# Altium schematic symbol library SCH - MCU - STM32 - ST MICROELECTRONICS STM32F722I(C-E)TX LQFP176.SchLib: 1 symbol
Pins are listed as number, name and electrical type; pins without a type are passive.

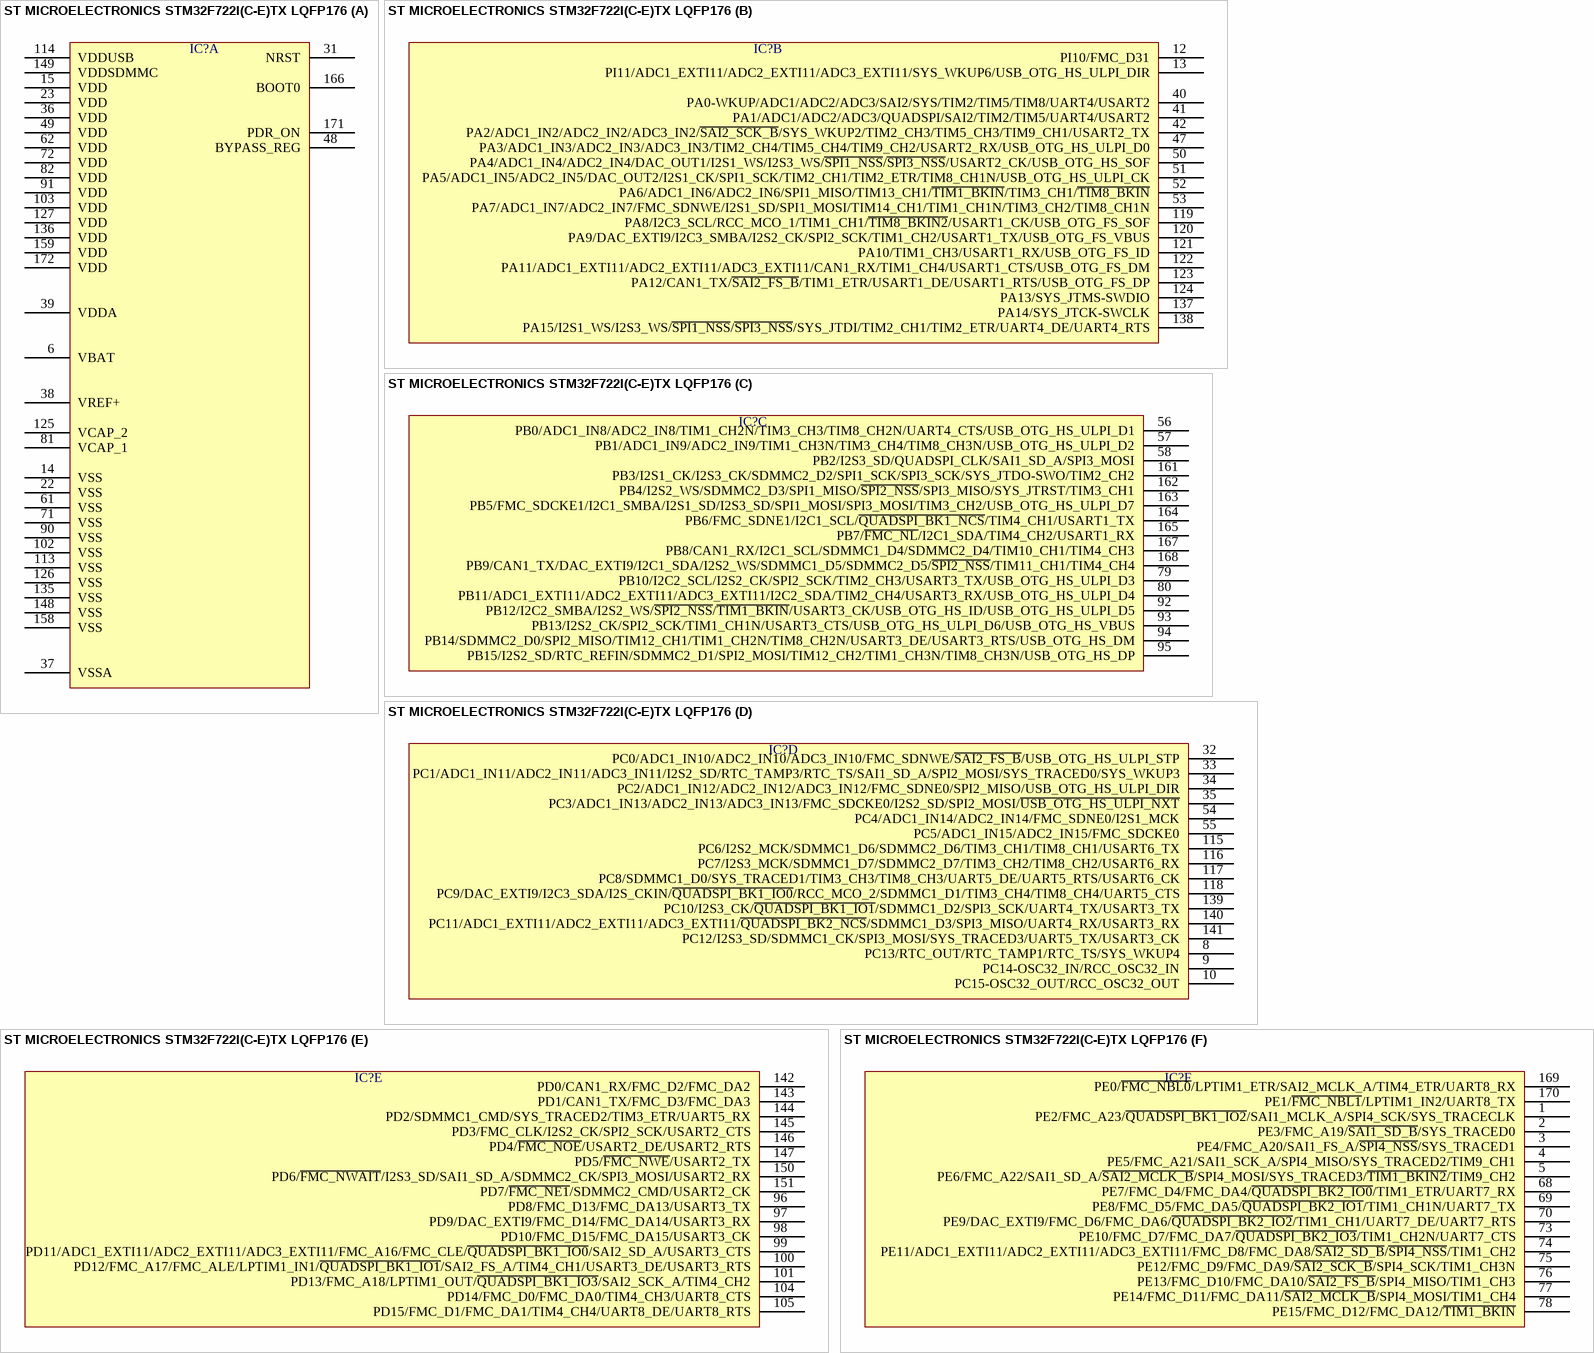
[diagram p0: symbol ST MICROELECTRONICS STM32F722I(C-E)TX LQFP176]

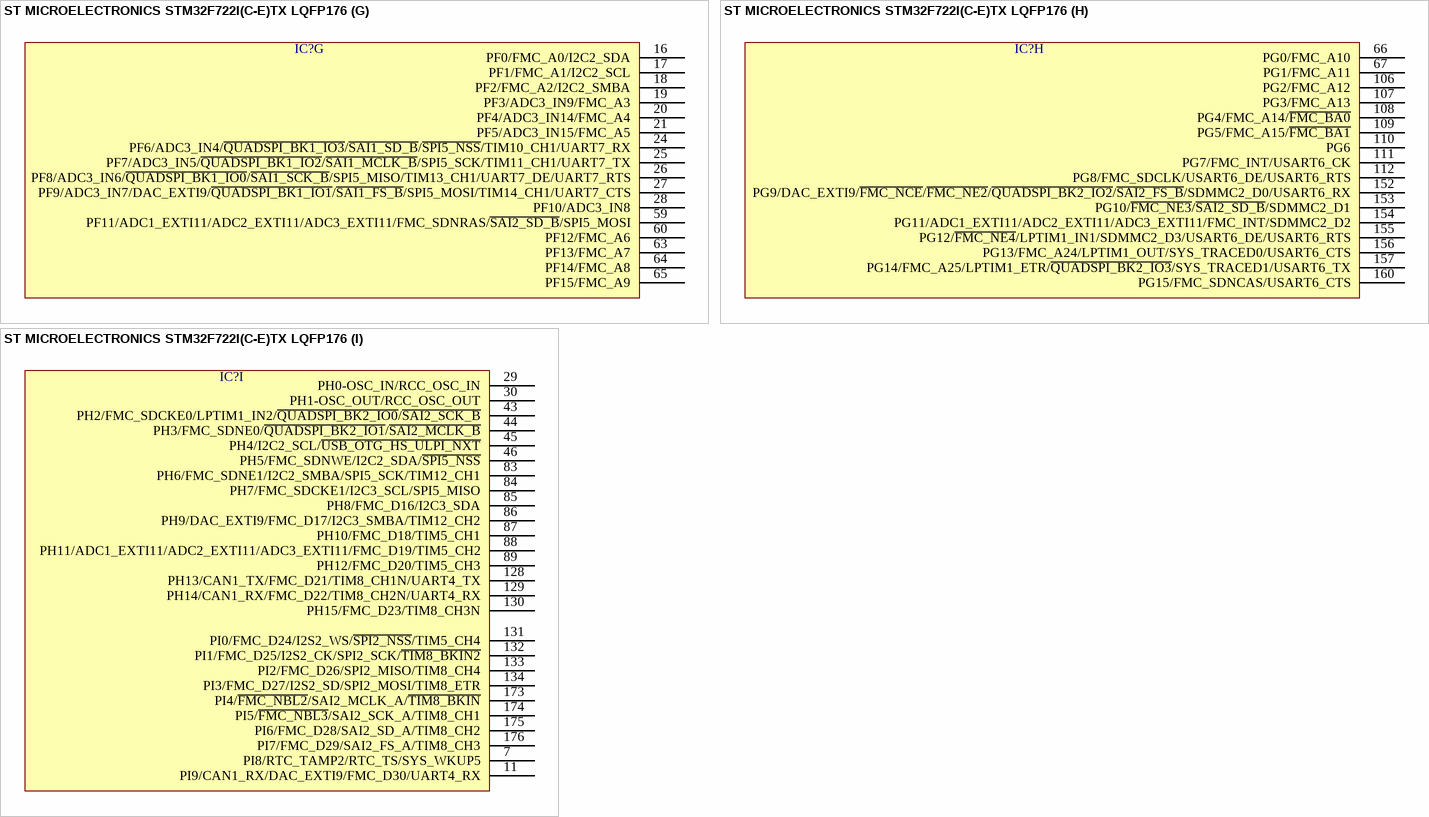
[diagram p1: symbol ST MICROELECTRONICS STM32F722I(C-E)TX LQFP176]

## ST MICROELECTRONICS STM32F722I(C-E)TX LQFP176
designator IC?  (value not drawn)
part A pins: 6 VBAT, 14 VSS, 15 VDD, 22 VSS, 23 VDD, 31 NRST, 36 VDD, 37 VSSA, 38 VREF+, 39 VDDA, 48 BYPASS_REG, 49 VDD, 61 VSS, 62 VDD, 71 VSS, 72 VDD, 81 VCAP_1, 82 VDD, 90 VSS, 91 VDD, 102 VSS, 103 VDD, 113 VSS, 114 VDDUSB, 125 VCAP_2, 126 VSS, 127 VDD, 135 VSS, 136 VDD, 148 VSS, 149 VDDSDMMC, 158 VSS, 159 VDD, 166 BOOT0, 171 PDR_ON, 172 VDD
part B pins: 12 PI10/FMC_D31, 13 PI11/ADC1_EXTI11/ADC2_EXTI11/ADC3_EXTI11/SYS_WKUP6/USB_OTG_HS_ULPI_DIR, 40 PA0-WKUP/ADC1/ADC2/ADC3/SAI2/SYS/TIM2/TIM5/TIM8/UART4/USART2, 41 PA1/ADC1/ADC2/ADC3/QUADSPI/SAI2/TIM2/TIM5/UART4/USART2, 42 PA2/ADC1_IN2/ADC2_IN2/ADC3_IN2/~{SAI2_SCK_B}/SYS_WKUP2/TIM2_CH3/TIM5_CH3/TIM9_CH1/USART2_TX, 47 PA3/ADC1_IN3/ADC2_IN3/ADC3_IN3/TIM2_CH4/TIM5_CH4/TIM9_CH2/USART2_RX/USB_OTG_HS_ULPI_D0, 50 PA4/ADC1_IN4/ADC2_IN4/DAC_OUT1/I2S1_WS/I2S3_WS/~{SPI1_NSS}/~{SPI3_NSS}/USART2_CK/USB_OTG_HS_SOF, 51 PA5/ADC1_IN5/ADC2_IN5/DAC_OUT2/I2S1_CK/SPI1_SCK/TIM2_CH1/TIM2_ETR/TIM8_CH1N/USB_OTG_HS_ULPI_CK, 52 PA6/ADC1_IN6/ADC2_IN6/SPI1_MISO/TIM13_CH1/~{TIM1_BKIN}/TIM3_CH1/~{TIM8_BKIN}, 53 PA7/ADC1_IN7/ADC2_IN7/FMC_SDNWE/I2S1_SD/SPI1_MOSI/TIM14_CH1/TIM1_CH1N/TIM3_CH2/TIM8_CH1N, 119 PA8/I2C3_SCL/RCC_MCO_1/TIM1_CH1/~{TIM8_BKIN2}/USART1_CK/USB_OTG_FS_SOF, 120 PA9/DAC_EXTI9/I2C3_SMBA/I2S2_CK/SPI2_SCK/TIM1_CH2/USART1_TX/USB_OTG_FS_VBUS, 121 PA10/TIM1_CH3/USART1_RX/USB_OTG_FS_ID, 122 PA11/ADC1_EXTI11/ADC2_EXTI11/ADC3_EXTI11/CAN1_RX/TIM1_CH4/USART1_CTS/USB_OTG_FS_DM, 123 PA12/CAN1_TX/~{SAI2_FS_B}/TIM1_ETR/USART1_DE/USART1_RTS/USB_OTG_FS_DP, 124 PA13/SYS_JTMS-SWDIO, 137 PA14/SYS_JTCK-SWCLK, 138 PA15/I2S1_WS/I2S3_WS/~{SPI1_NSS}/~{SPI3_NSS}/SYS_JTDI/TIM2_CH1/TIM2_ETR/UART4_DE/UART4_RTS
part C pins: 56 PB0/ADC1_IN8/ADC2_IN8/TIM1_CH2N/TIM3_CH3/TIM8_CH2N/UART4_CTS/USB_OTG_HS_ULPI_D1, 57 PB1/ADC1_IN9/ADC2_IN9/TIM1_CH3N/TIM3_CH4/TIM8_CH3N/USB_OTG_HS_ULPI_D2, 58 PB2/I2S3_SD/QUADSPI_CLK/SAI1_SD_A/SPI3_MOSI, 79 PB10/I2C2_SCL/I2S2_CK/SPI2_SCK/TIM2_CH3/USART3_TX/USB_OTG_HS_ULPI_D3, 80 PB11/ADC1_EXTI11/ADC2_EXTI11/ADC3_EXTI11/I2C2_SDA/TIM2_CH4/USART3_RX/USB_OTG_HS_ULPI_D4, 92 PB12/I2C2_SMBA/I2S2_WS/~{SPI2_NSS}/~{TIM1_BKIN}/USART3_CK/USB_OTG_HS_ID/USB_OTG_HS_ULPI_D5, 93 PB13/I2S2_CK/SPI2_SCK/TIM1_CH1N/USART3_CTS/USB_OTG_HS_ULPI_D6/USB_OTG_HS_VBUS, 94 PB14/SDMMC2_D0/SPI2_MISO/TIM12_CH1/TIM1_CH2N/TIM8_CH2N/USART3_DE/USART3_RTS/USB_OTG_HS_DM, 95 PB15/I2S2_SD/RTC_REFIN/SDMMC2_D1/SPI2_MOSI/TIM12_CH2/TIM1_CH3N/TIM8_CH3N/USB_OTG_HS_DP, 161 PB3/I2S1_CK/I2S3_CK/SDMMC2_D2/SPI1_SCK/SPI3_SCK/SYS_JTDO-SWO/TIM2_CH2, 162 PB4/I2S2_WS/SDMMC2_D3/SPI1_MISO/~{SPI2_NSS}/SPI3_MISO/SYS_JTRST/TIM3_CH1, 163 PB5/FMC_SDCKE1/I2C1_SMBA/I2S1_SD/I2S3_SD/SPI1_MOSI/SPI3_MOSI/TIM3_CH2/USB_OTG_HS_ULPI_D7, 164 PB6/FMC_SDNE1/I2C1_SCL/~{QUADSPI_BK1_NCS}/TIM4_CH1/USART1_TX, 165 PB7/~{FMC_NL}/I2C1_SDA/TIM4_CH2/USART1_RX, 167 PB8/CAN1_RX/I2C1_SCL/SDMMC1_D4/SDMMC2_D4/TIM10_CH1/TIM4_CH3, 168 PB9/CAN1_TX/DAC_EXTI9/I2C1_SDA/I2S2_WS/SDMMC1_D5/SDMMC2_D5/~{SPI2_NSS}/TIM11_CH1/TIM4_CH4
part D pins: 8 PC13/RTC_OUT/RTC_TAMP1/RTC_TS/SYS_WKUP4, 9 PC14-OSC32_IN/RCC_OSC32_IN, 10 PC15-OSC32_OUT/RCC_OSC32_OUT, 32 PC0/ADC1_IN10/ADC2_IN10/ADC3_IN10/FMC_SDNWE/~{SAI2_FS_B}/USB_OTG_HS_ULPI_STP, 33 PC1/ADC1_IN11/ADC2_IN11/ADC3_IN11/I2S2_SD/RTC_TAMP3/RTC_TS/SAI1_SD_A/SPI2_MOSI/SYS_TRACED0/SYS_WKUP3, 34 PC2/ADC1_IN12/ADC2_IN12/ADC3_IN12/FMC_SDNE0/SPI2_MISO/USB_OTG_HS_ULPI_DIR, 35 PC3/ADC1_IN13/ADC2_IN13/ADC3_IN13/FMC_SDCKE0/I2S2_SD/SPI2_MOSI/~{USB_OTG_HS_ULPI_NXT}, 54 PC4/ADC1_IN14/ADC2_IN14/FMC_SDNE0/I2S1_MCK, 55 PC5/ADC1_IN15/ADC2_IN15/FMC_SDCKE0, 115 PC6/I2S2_MCK/SDMMC1_D6/SDMMC2_D6/TIM3_CH1/TIM8_CH1/USART6_TX, 116 PC7/I2S3_MCK/SDMMC1_D7/SDMMC2_D7/TIM3_CH2/TIM8_CH2/USART6_RX, 117 PC8/SDMMC1_D0/SYS_TRACED1/TIM3_CH3/TIM8_CH3/UART5_DE/UART5_RTS/USART6_CK, 118 PC9/DAC_EXTI9/I2C3_SDA/I2S_CKIN/~{QUADSPI_BK1_IO0}/RCC_MCO_2/SDMMC1_D1/TIM3_CH4/TIM8_CH4/UART5_CTS, 139 PC10/I2S3_CK/~{QUADSPI_BK1_IO1}/SDMMC1_D2/SPI3_SCK/UART4_TX/USART3_TX, 140 PC11/ADC1_EXTI11/ADC2_EXTI11/ADC3_EXTI11/~{QUADSPI_BK2_NCS}/SDMMC1_D3/SPI3_MISO/UART4_RX/USART3_RX, 141 PC12/I2S3_SD/SDMMC1_CK/SPI3_MOSI/SYS_TRACED3/UART5_TX/USART3_CK
part E pins: 96 PD8/FMC_D13/FMC_DA13/USART3_TX, 97 PD9/DAC_EXTI9/FMC_D14/FMC_DA14/USART3_RX, 98 PD10/FMC_D15/FMC_DA15/USART3_CK, 99 PD11/ADC1_EXTI11/ADC2_EXTI11/ADC3_EXTI11/FMC_A16/FMC_CLE/~{QUADSPI_BK1_IO0}/SAI2_SD_A/USART3_CTS, 100 PD12/FMC_A17/FMC_ALE/LPTIM1_IN1/~{QUADSPI_BK1_IO1}/SAI2_FS_A/TIM4_CH1/USART3_DE/USART3_RTS, 101 PD13/FMC_A18/LPTIM1_OUT/~{QUADSPI_BK1_IO3}/SAI2_SCK_A/TIM4_CH2, 104 PD14/FMC_D0/FMC_DA0/TIM4_CH3/UART8_CTS, 105 PD15/FMC_D1/FMC_DA1/TIM4_CH4/UART8_DE/UART8_RTS, 142 PD0/CAN1_RX/FMC_D2/FMC_DA2, 143 PD1/CAN1_TX/FMC_D3/FMC_DA3, 144 PD2/SDMMC1_CMD/SYS_TRACED2/TIM3_ETR/UART5_RX, 145 PD3/FMC_CLK/I2S2_CK/SPI2_SCK/USART2_CTS, 146 PD4/~{FMC_NOE}/USART2_DE/USART2_RTS, 147 PD5/~{FMC_NWE}/USART2_TX, 150 PD6/~{FMC_NWAIT}/I2S3_SD/SAI1_SD_A/SDMMC2_CK/SPI3_MOSI/USART2_RX, 151 PD7/~{FMC_NE1}/SDMMC2_CMD/USART2_CK
part F pins: 1 PE2/FMC_A23/~{QUADSPI_BK1_IO2}/SAI1_MCLK_A/SPI4_SCK/SYS_TRACECLK, 2 PE3/FMC_A19/~{SAI1_SD_B}/SYS_TRACED0, 3 PE4/FMC_A20/SAI1_FS_A/~{SPI4_NSS}/SYS_TRACED1, 4 PE5/FMC_A21/SAI1_SCK_A/SPI4_MISO/SYS_TRACED2/TIM9_CH1, 5 PE6/FMC_A22/SAI1_SD_A/~{SAI2_MCLK_B}/SPI4_MOSI/SYS_TRACED3/~{TIM1_BKIN2}/TIM9_CH2, 68 PE7/FMC_D4/FMC_DA4/~{QUADSPI_BK2_IO0}/TIM1_ETR/UART7_RX, 69 PE8/FMC_D5/FMC_DA5/~{QUADSPI_BK2_IO1}/TIM1_CH1N/UART7_TX, 70 PE9/DAC_EXTI9/FMC_D6/FMC_DA6/~{QUADSPI_BK2_IO2}/TIM1_CH1/UART7_DE/UART7_RTS, 73 PE10/FMC_D7/FMC_DA7/~{QUADSPI_BK2_IO3}/TIM1_CH2N/UART7_CTS, 74 PE11/ADC1_EXTI11/ADC2_EXTI11/ADC3_EXTI11/FMC_D8/FMC_DA8/~{SAI2_SD_B}/~{SPI4_NSS}/TIM1_CH2, 75 PE12/FMC_D9/FMC_DA9/~{SAI2_SCK_B}/SPI4_SCK/TIM1_CH3N, 76 PE13/FMC_D10/FMC_DA10/~{SAI2_FS_B}/SPI4_MISO/TIM1_CH3, 77 PE14/FMC_D11/FMC_DA11/~{SAI2_MCLK_B}/SPI4_MOSI/TIM1_CH4, 78 PE15/FMC_D12/FMC_DA12/~{TIM1_BKIN}, 169 PE0/~{FMC_NBL0}/LPTIM1_ETR/SAI2_MCLK_A/TIM4_ETR/UART8_RX, 170 PE1/~{FMC_NBL1}/LPTIM1_IN2/UART8_TX
part G pins: 16 PF0/FMC_A0/I2C2_SDA, 17 PF1/FMC_A1/I2C2_SCL, 18 PF2/FMC_A2/I2C2_SMBA, 19 PF3/ADC3_IN9/FMC_A3, 20 PF4/ADC3_IN14/FMC_A4, 21 PF5/ADC3_IN15/FMC_A5, 24 PF6/ADC3_IN4/~{QUADSPI_BK1_IO3}/~{SAI1_SD_B}/~{SPI5_NSS}/TIM10_CH1/UART7_RX, 25 PF7/ADC3_IN5/~{QUADSPI_BK1_IO2}/~{SAI1_MCLK_B}/SPI5_SCK/TIM11_CH1/UART7_TX, 26 PF8/ADC3_IN6/~{QUADSPI_BK1_IO0}/~{SAI1_SCK_B}/SPI5_MISO/TIM13_CH1/UART7_DE/UART7_RTS, 27 PF9/ADC3_IN7/DAC_EXTI9/~{QUADSPI_BK1_IO1}/~{SAI1_FS_B}/SPI5_MOSI/TIM14_CH1/UART7_CTS, 28 PF10/ADC3_IN8, 59 PF11/ADC1_EXTI11/ADC2_EXTI11/ADC3_EXTI11/FMC_SDNRAS/~{SAI2_SD_B}/SPI5_MOSI, 60 PF12/FMC_A6, 63 PF13/FMC_A7, 64 PF14/FMC_A8, 65 PF15/FMC_A9
part H pins: 66 PG0/FMC_A10, 67 PG1/FMC_A11, 106 PG2/FMC_A12, 107 PG3/FMC_A13, 108 PG4/FMC_A14/~{FMC_BA0}, 109 PG5/FMC_A15/~{FMC_BA1}, 110 PG6, 111 PG7/FMC_INT/USART6_CK, 112 PG8/FMC_SDCLK/USART6_DE/USART6_RTS, 152 PG9/DAC_EXTI9/~{FMC_NCE}/~{FMC_NE2}/~{QUADSPI_BK2_IO2}/~{SAI2_FS_B}/SDMMC2_D0/USART6_RX, 153 PG10/~{FMC_NE3}/~{SAI2_SD_B}/SDMMC2_D1, 154 PG11/ADC1_EXTI11/ADC2_EXTI11/ADC3_EXTI11/FMC_INT/SDMMC2_D2, 155 PG12/~{FMC_NE4}/LPTIM1_IN1/SDMMC2_D3/USART6_DE/USART6_RTS, 156 PG13/FMC_A24/LPTIM1_OUT/SYS_TRACED0/USART6_CTS, 157 PG14/FMC_A25/LPTIM1_ETR/~{QUADSPI_BK2_IO3}/SYS_TRACED1/USART6_TX, 160 PG15/FMC_SDNCAS/USART6_CTS
part I pins: 7 PI8/RTC_TAMP2/RTC_TS/SYS_WKUP5, 11 PI9/CAN1_RX/DAC_EXTI9/FMC_D30/UART4_RX, 29 PH0-OSC_IN/RCC_OSC_IN, 30 PH1-OSC_OUT/RCC_OSC_OUT, 43 PH2/FMC_SDCKE0/LPTIM1_IN2/~{QUADSPI_BK2_IO0}/~{SAI2_SCK_B}, 44 PH3/FMC_SDNE0/~{QUADSPI_BK2_IO1}/~{SAI2_MCLK_B}, 45 PH4/I2C2_SCL/~{USB_OTG_HS_ULPI_NXT}, 46 PH5/FMC_SDNWE/I2C2_SDA/~{SPI5_NSS}, 83 PH6/FMC_SDNE1/I2C2_SMBA/SPI5_SCK/TIM12_CH1, 84 PH7/FMC_SDCKE1/I2C3_SCL/SPI5_MISO, 85 PH8/FMC_D16/I2C3_SDA, 86 PH9/DAC_EXTI9/FMC_D17/I2C3_SMBA/TIM12_CH2, 87 PH10/FMC_D18/TIM5_CH1, 88 PH11/ADC1_EXTI11/ADC2_EXTI11/ADC3_EXTI11/FMC_D19/TIM5_CH2, 89 PH12/FMC_D20/TIM5_CH3, 128 PH13/CAN1_TX/FMC_D21/TIM8_CH1N/UART4_TX, 129 PH14/CAN1_RX/FMC_D22/TIM8_CH2N/UART4_RX, 130 PH15/FMC_D23/TIM8_CH3N, 131 PI0/FMC_D24/I2S2_WS/~{SPI2_NSS}/TIM5_CH4, 132 PI1/FMC_D25/I2S2_CK/SPI2_SCK/~{TIM8_BKIN2}, 133 PI2/FMC_D26/SPI2_MISO/TIM8_CH4, 134 PI3/FMC_D27/I2S2_SD/SPI2_MOSI/TIM8_ETR, 173 PI4/~{FMC_NBL2}/SAI2_MCLK_A/~{TIM8_BKIN}, 174 PI5/~{FMC_NBL3}/SAI2_SCK_A/TIM8_CH1, 175 PI6/FMC_D28/SAI2_SD_A/TIM8_CH2, 176 PI7/FMC_D29/SAI2_FS_A/TIM8_CH3